# Altium schematic symbol library WE-HCM.SchLib: 78 symbols (part 1 of 2)
Pins are listed as number, name and electrical type; pins without a type are passive.

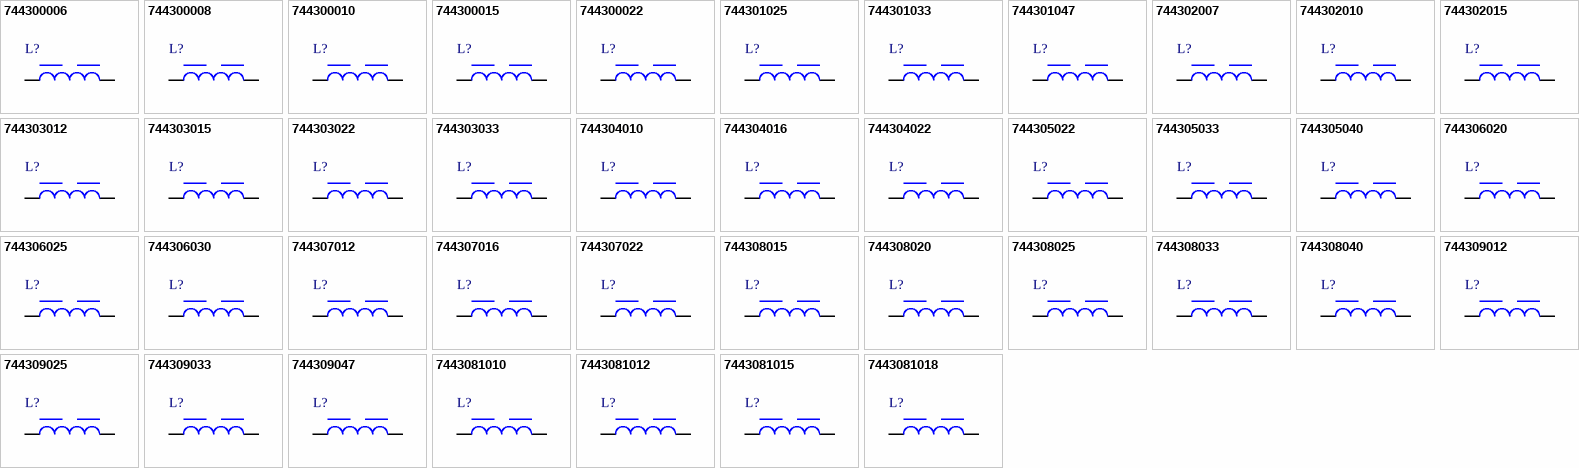
[diagram p0: symbols 744300006 to 7443081018]

## 744300006
designator L?, comment 0.06μH, 37A  (value not drawn)
WE-HCM SMT High Current Flat Wire Inductor, size 9065, 0.06μH, 37A, 0.22mΩ; Manufacturer Part Number: 744300006; Manufacturer: Wurth Elektronik; Case/Size Code: 9065; Material: MnZn; Rated Inductance: 0.059μH; Saturation Current @ 10%: 60.9A; Saturation Current @ 30%: 65.6A; Self Resonant Frequency: 124MHz; Category: Power Inductors; Match Code: WE-HCM; ComponentLink1Description: Website Link; ComponentLink1URL: https://www.we-online.com/redexpert/article/744300006?ad; ComponentLink2Description: Datasheet Link; ComponentLink2URL: https://www.we-online.com/redexpert/spec/744300006?ad; Mount: Surface Mount; Min Operating Temperature: -40°C; Max Operating Temperature: 125°C; Packaging: Tape and Reel; Length: 8.64mm; Width: 6.35mm; Height: 4.5mm; DC Resistance: 0.22mΩ; Inductance: 0.06μH; Rated Current: 37A
footprint WE-HCM_9065
simulation model 9065_744300006_0.06u
pins: 1, 2

## 744300008
designator L?, comment 0.08μH, 37A  (value not drawn)
WE-HCM SMT High Current Flat Wire Inductor, size 9065, 0.08μH, 37A, 0.22mΩ; Manufacturer Part Number: 744300008; Manufacturer: Wurth Elektronik; Case/Size Code: 9065; Material: MnZn; Rated Inductance: 0.078μH; Saturation Current @ 10%: 48.7A; Saturation Current @ 30%: 53.1A; Self Resonant Frequency: 94MHz; Category: Power Inductors; Match Code: WE-HCM; ComponentLink1Description: Website Link; ComponentLink1URL: https://www.we-online.com/redexpert/article/744300008?ad; ComponentLink2Description: Datasheet Link; ComponentLink2URL: https://www.we-online.com/redexpert/spec/744300008?ad; Mount: Surface Mount; Min Operating Temperature: -40°C; Max Operating Temperature: 125°C; Packaging: Tape and Reel; Length: 8.64mm; Width: 6.35mm; Height: 4.5mm; DC Resistance: 0.22mΩ; Inductance: 0.08μH; Rated Current: 37A
footprint WE-HCM_9065
simulation model 9065_744300008_0.08u
pins: 1, 2

## 744300010
designator L?, comment 0.1μH, 37A  (value not drawn)
WE-HCM SMT High Current Flat Wire Inductor, size 9065, 0.1μH, 37A, 0.22mΩ; Manufacturer Part Number: 744300010; Manufacturer: Wurth Elektronik; Case/Size Code: 9065; Material: MnZn; Rated Inductance: 0.093μH; Saturation Current @ 10%: 39.5A; Saturation Current @ 30%: 43.1A; Self Resonant Frequency: 74MHz; Category: Power Inductors; Match Code: WE-HCM; ComponentLink1Description: Website Link; ComponentLink1URL: https://www.we-online.com/redexpert/article/744300010?ad; ComponentLink2Description: Datasheet Link; ComponentLink2URL: https://www.we-online.com/redexpert/spec/744300010?ad; Mount: Surface Mount; Min Operating Temperature: -40°C; Max Operating Temperature: 125°C; Packaging: Tape and Reel; Length: 8.64mm; Width: 6.35mm; Height: 4.5mm; DC Resistance: 0.22mΩ; Inductance: 0.1μH; Rated Current: 37A
footprint WE-HCM_9065
simulation model 9065_744300010_0.1u
pins: 1, 2

## 744300015
designator L?, comment 0.15μH, 37A  (value not drawn)
WE-HCM SMT High Current Flat Wire Inductor, size 9065, 0.15μH, 37A, 0.22mΩ; Manufacturer Part Number: 744300015; Manufacturer: Wurth Elektronik; Case/Size Code: 9065; Material: MnZn; Rated Inductance: 0.034μH; Saturation Current @ 10%: 28.3A; Saturation Current @ 30%: 32.3A; Self Resonant Frequency: 51MHz; Category: Power Inductors; Match Code: WE-HCM; ComponentLink1Description: Website Link; ComponentLink1URL: https://www.we-online.com/redexpert/article/744300015?ad; ComponentLink2Description: Datasheet Link; ComponentLink2URL: https://www.we-online.com/redexpert/spec/744300015?ad; Mount: Surface Mount; Min Operating Temperature: -40°C; Max Operating Temperature: 125°C; Packaging: Tape and Reel; Length: 8.64mm; Width: 6.35mm; Height: 4.5mm; DC Resistance: 0.22mΩ; Inductance: 0.15μH; Rated Current: 37A
footprint WE-HCM_9065
simulation model 9065_744300015_0.15u
pins: 1, 2

## 744300022
designator L?, comment 0.22μH, 37A  (value not drawn)
WE-HCM SMT High Current Flat Wire Inductor, size 9065, 0.22μH, 37A, 0.22mΩ; Manufacturer Part Number: 744300022; Manufacturer: Wurth Elektronik; Case/Size Code: 9065; Material: MnZn; Rated Inductance: 0.024μH; Saturation Current @ 10%: 18.8A; Saturation Current @ 30%: 21.6A; Self Resonant Frequency: 38MHz; Category: Power Inductors; Match Code: WE-HCM; ComponentLink1Description: Website Link; ComponentLink1URL: https://www.we-online.com/redexpert/article/744300022?ad; ComponentLink2Description: Datasheet Link; ComponentLink2URL: https://www.we-online.com/redexpert/spec/744300022?ad; Mount: Surface Mount; Min Operating Temperature: -40°C; Max Operating Temperature: 125°C; Packaging: Tape and Reel; Length: 8.64mm; Width: 6.35mm; Height: 4.5mm; DC Resistance: 0.22mΩ; Inductance: 0.22μH; Rated Current: 37A
footprint WE-HCM_9065
simulation model 9065_744300022_0.22u
pins: 1, 2

## 744301025
designator L?, comment 0.25μH, 38A  (value not drawn)
WE-HCM SMT High Current Flat Wire Inductor, size 1190, 0.25μH, 38A, 0.32mΩ; Manufacturer Part Number: 744301025; Manufacturer: Wurth Elektronik; Case/Size Code: 1190; Material: MnZn; Saturation Current @ 10%: 54.4A; Saturation Current @ 30%: 64.7A; Self Resonant Frequency: 33MHz; Category: Power Inductors; Match Code: WE-HCM; ComponentLink1Description: Website Link; ComponentLink1URL: https://www.we-online.com/redexpert/article/744301025?ad; ComponentLink2Description: Datasheet Link; ComponentLink2URL: https://www.we-online.com/redexpert/spec/744301025?ad; Mount: Surface Mount; Min Operating Temperature: -40°C; Max Operating Temperature: 125°C; Packaging: Tape and Reel; Length: 11.3mm; Width: 11mm; Height: 8.9mm; DC Resistance: 0.32mΩ; Inductance: 0.25μH; Rated Current: 38A; Rated Inductance: 0.25μH
footprint WE-HCM_1190
simulation model 1190_744301025_0.25u
pins: 1, 2

## 744301033
designator L?, comment 0.33μH, 38A  (value not drawn)
WE-HCM SMT High Current Flat Wire Inductor, size 1190, 0.33μH, 38A, 0.32mΩ; Manufacturer Part Number: 744301033; Manufacturer: Wurth Elektronik; Case/Size Code: 1190; Material: MnZn; Rated Inductance: 0.325μH; Saturation Current @ 10%: 44.9A; Saturation Current @ 30%: 48.9A; Self Resonant Frequency: 28MHz; Category: Power Inductors; Match Code: WE-HCM; ComponentLink1Description: Website Link; ComponentLink1URL: https://www.we-online.com/redexpert/article/744301033?ad; ComponentLink2Description: Datasheet Link; ComponentLink2URL: https://www.we-online.com/redexpert/spec/744301033?ad; Mount: Surface Mount; Min Operating Temperature: -40°C; Max Operating Temperature: 125°C; Packaging: Tape and Reel; Length: 11.3mm; Width: 11mm; Height: 8.9mm; DC Resistance: 0.32mΩ; Inductance: 0.33μH; Rated Current: 38A
footprint WE-HCM_1190
simulation model 1190_744301033_0.33u
pins: 1, 2

## 744301047
designator L?, comment 0.47μH, 38A  (value not drawn)
WE-HCM SMT High Current Flat Wire Inductor, size 1190, 0.47μH, 38A, 0.32mΩ; Manufacturer Part Number: 744301047; Manufacturer: Wurth Elektronik; Case/Size Code: 1190; Material: MnZn; Rated Inductance: 0.24μH; Saturation Current @ 10%: 32.1A; Saturation Current @ 30%: 36.1A; Self Resonant Frequency: 20MHz; Category: Power Inductors; Match Code: WE-HCM; ComponentLink1Description: Website Link; ComponentLink1URL: https://www.we-online.com/redexpert/article/744301047?ad; ComponentLink2Description: Datasheet Link; ComponentLink2URL: https://www.we-online.com/redexpert/spec/744301047?ad; Mount: Surface Mount; Min Operating Temperature: -40°C; Max Operating Temperature: 125°C; Packaging: Tape and Reel; Length: 11.3mm; Width: 11mm; Height: 8.9mm; DC Resistance: 0.32mΩ; Inductance: 0.47μH; Rated Current: 38A
footprint WE-HCM_1190
simulation model 1190_744301047_0.47u
pins: 1, 2

## 744302007
designator L?, comment 0.072μH, 30A  (value not drawn)
WE-HCM SMT High Current Flat Wire Inductor, size 7050, 0.072μH, 30A, 0.235mΩ; Manufacturer Part Number: 744302007; Manufacturer: Wurth Elektronik; Case/Size Code: 7050; Material: MnZn; Rated Inductance: 0.071μH; Saturation Current @ 10%: 62A; Saturation Current @ 30%: 64A; Self Resonant Frequency: 150MHz; Category: Power Inductors; Match Code: WE-HCM; ComponentLink1Description: Website Link; ComponentLink1URL: https://www.we-online.com/redexpert/article/744302007?ad; ComponentLink2Description: Datasheet Link; ComponentLink2URL: https://www.we-online.com/redexpert/spec/744302007?ad; Mount: Surface Mount; Min Operating Temperature: -40°C; Max Operating Temperature: 125°C; Packaging: Tape and Reel; Length: 7.15mm; Width: 7mm; Height: 5mm; DC Resistance: 0.235mΩ; Inductance: 0.072μH; Rated Current: 30A
footprint WE-HCM_7050
simulation model 7050_744302007_0.072u
pins: 1, 2

## 744302010
designator L?, comment 0.105μH, 30A  (value not drawn)
WE-HCM SMT High Current Flat Wire Inductor, size 7050, 0.105μH, 30A, 0.235mΩ; Manufacturer Part Number: 744302010; Manufacturer: Wurth Elektronik; Case/Size Code: 7050; Material: MnZn; Rated Inductance: 0.104μH; Saturation Current @ 10%: 45A; Saturation Current @ 30%: 51A; Self Resonant Frequency: 70MHz; Category: Power Inductors; Match Code: WE-HCM; ComponentLink1Description: Website Link; ComponentLink1URL: https://www.we-online.com/redexpert/article/744302010?ad; ComponentLink2Description: Datasheet Link; ComponentLink2URL: https://www.we-online.com/redexpert/spec/744302010?ad; Mount: Surface Mount; Min Operating Temperature: -40°C; Max Operating Temperature: 125°C; Packaging: Tape and Reel; Length: 7.15mm; Width: 7mm; Height: 5mm; DC Resistance: 0.235mΩ; Inductance: 0.105μH; Rated Current: 30A
footprint WE-HCM_7050
simulation model 7050_744302010_0.105u
pins: 1, 2

## 744302015
designator L?, comment 0.15μH, 30A  (value not drawn)
WE-HCM SMT High Current Flat Wire Inductor, size 7050, 0.15μH, 30A, 0.235mΩ; Manufacturer Part Number: 744302015; Manufacturer: Wurth Elektronik; Case/Size Code: 7050; Material: MnZn; Rated Inductance: 0.125μH; Saturation Current @ 30%: 35A; Self Resonant Frequency: 55MHz; Category: Power Inductors; Match Code: WE-HCM; ComponentLink1Description: Website Link; ComponentLink1URL: https://www.we-online.com/redexpert/article/744302015?ad; ComponentLink2Description: Datasheet Link; ComponentLink2URL: https://www.we-online.com/redexpert/spec/744302015?ad; Mount: Surface Mount; Min Operating Temperature: -40°C; Max Operating Temperature: 125°C; Packaging: Tape and Reel; Length: 7.15mm; Width: 7mm; Height: 5mm; DC Resistance: 0.235mΩ; Inductance: 0.15μH; Rated Current: 30A; Saturation Current @ 10%: 30A
footprint WE-HCM_7050
simulation model 7050_744302015_0.15u
pins: 1, 2

## 744303012
designator L?, comment 0.12μH, 31A  (value not drawn)
WE-HCM SMT High Current Flat Wire Inductor, size 1050, 0.12μH, 31A, 0.325mΩ; Manufacturer Part Number: 744303012; Manufacturer: Wurth Elektronik; Case/Size Code: 1050; Material: MnZn; Rated Inductance: 0.118μH; Saturation Current @ 10%: 51.2A; Saturation Current @ 30%: 59.8A; Self Resonant Frequency: 150MHz; Category: Power Inductors; Match Code: WE-HCM; ComponentLink1Description: Website Link; ComponentLink1URL: https://www.we-online.com/redexpert/article/744303012?ad; ComponentLink2Description: Datasheet Link; ComponentLink2URL: https://www.we-online.com/redexpert/spec/744303012?ad; Mount: Surface Mount; Min Operating Temperature: -40°C; Max Operating Temperature: 125°C; Packaging: Tape and Reel; Length: 10.2mm; Width: 7mm; Height: 5mm; DC Resistance: 0.325mΩ; Inductance: 0.12μH; Rated Current: 31A
footprint WE-HCM_1050
simulation model 1050_744303012_0.12u
pins: 1, 2

## 744303015
designator L?, comment 0.155μH, 31A  (value not drawn)
WE-HCM SMT High Current Flat Wire Inductor, size 1050, 0.155μH, 31A, 0.325mΩ; Manufacturer Part Number: 744303015; Manufacturer: Wurth Elektronik; Case/Size Code: 1050; Material: MnZn; Rated Inductance: 0.15μH; Saturation Current @ 10%: 44.5A; Saturation Current @ 30%: 51.5A; Self Resonant Frequency: 110MHz; Category: Power Inductors; Match Code: WE-HCM; ComponentLink1Description: Website Link; ComponentLink1URL: https://www.we-online.com/redexpert/article/744303015?ad; ComponentLink2Description: Datasheet Link; ComponentLink2URL: https://www.we-online.com/redexpert/spec/744303015?ad; Mount: Surface Mount; Min Operating Temperature: -40°C; Max Operating Temperature: 125°C; Packaging: Tape and Reel; Length: 10.2mm; Width: 7mm; Height: 5mm; DC Resistance: 0.325mΩ; Inductance: 0.155μH; Rated Current: 31A
footprint WE-HCM_1050
simulation model 1050_744303015_0.155u
pins: 1, 2

## 744303022
designator L?, comment 0.22μH, 31A  (value not drawn)
WE-HCM SMT High Current Flat Wire Inductor, size 1050, 0.22μH, 31A, 0.325mΩ; Manufacturer Part Number: 744303022; Manufacturer: Wurth Elektronik; Case/Size Code: 1050; Material: MnZn; Rated Inductance: 0.18μH; Saturation Current @ 10%: 27A; Saturation Current @ 30%: 34.5A; Self Resonant Frequency: 80MHz; Category: Power Inductors; Match Code: WE-HCM; ComponentLink1Description: Website Link; ComponentLink1URL: https://www.we-online.com/redexpert/article/744303022?ad; ComponentLink2Description: Datasheet Link; ComponentLink2URL: https://www.we-online.com/redexpert/spec/744303022?ad; Mount: Surface Mount; Min Operating Temperature: -40°C; Max Operating Temperature: 125°C; Packaging: Tape and Reel; Length: 10.2mm; Width: 7mm; Height: 5mm; DC Resistance: 0.325mΩ; Inductance: 0.22μH; Rated Current: 31A
footprint WE-HCM_1050
simulation model 1050_744303022_0.22u
pins: 1, 2

## 744303033
designator L?, comment 0.33μH, 63.9A  (value not drawn)
WE-HCM SMT High Current Flat Wire Inductor, size 1050, 0.33μH, 63.9A, 0.325mΩ; Manufacturer Part Number: 744303033; Manufacturer: Wurth Elektronik; Case/Size Code: 1050; Material: MnZn; Saturation Current @ 10%: 14A; Saturation Current @ 30%: 24A; Self Resonant Frequency: 20MHz; Category: Power Inductors; Match Code: WE-HCM; ComponentLink1Description: Website Link; ComponentLink1URL: https://www.we-online.com/redexpert/article/744303033?ad; ComponentLink2Description: Datasheet Link; ComponentLink2URL: https://www.we-online.com/redexpert/spec/744303033?ad; Mount: Surface Mount; Min Operating Temperature: -40°C; Max Operating Temperature: 125°C; Packaging: Tape and Reel; Length: 10.2mm; Width: 7mm; Height: 5mm; DC Resistance: 0.325mΩ; Inductance: 0.33μH; Rated Current: 63.9A
footprint WE-HCM_1050
pins: 1, 2

## 744304010
designator L?, comment 0.1μH, 24A  (value not drawn)
WE-HCM SMT High Current Flat Wire Inductor, size 1240, 0.1μH, 24A, 0.17mΩ; Manufacturer Part Number: 744304010; Manufacturer: Wurth Elektronik; Case/Size Code: 1240; Material: MnZn; Saturation Current @ 10%: 57.4A; Saturation Current @ 30%: 68.1A; Self Resonant Frequency: 105MHz; Category: Power Inductors; Match Code: WE-HCM; ComponentLink1Description: Website Link; ComponentLink1URL: https://www.we-online.com/redexpert/article/744304010?ad; ComponentLink2Description: Datasheet Link; ComponentLink2URL: https://www.we-online.com/redexpert/spec/744304010?ad; Mount: Surface Mount; Min Operating Temperature: -40°C; Max Operating Temperature: 125°C; Packaging: Tape and Reel; Length: 11.5mm; Width: 11.8mm; Height: 3.8mm; DC Resistance: 0.17mΩ; Inductance: 0.1μH; Rated Current: 24A; Rated Inductance: 0.1μH
footprint WE-HCM_1240
simulation model 1240_744304010_0.1u
pins: 1, 2

## 744304016
designator L?, comment 0.16μH, 24A  (value not drawn)
WE-HCM SMT High Current Flat Wire Inductor, size 1240, 0.16μH, 24A, 0.17mΩ; Manufacturer Part Number: 744304016; Manufacturer: Wurth Elektronik; Case/Size Code: 1240; Material: MnZn; Rated Inductance: 0.155μH; Saturation Current @ 10%: 34.2A; Saturation Current @ 30%: 42.4A; Self Resonant Frequency: 80MHz; Category: Power Inductors; Match Code: WE-HCM; ComponentLink1Description: Website Link; ComponentLink1URL: https://www.we-online.com/redexpert/article/744304016?ad; ComponentLink2Description: Datasheet Link; ComponentLink2URL: https://www.we-online.com/redexpert/spec/744304016?ad; Mount: Surface Mount; Min Operating Temperature: -40°C; Max Operating Temperature: 125°C; Packaging: Tape and Reel; Length: 11.5mm; Width: 11.8mm; Height: 3.8mm; DC Resistance: 0.17mΩ; Inductance: 0.16μH; Rated Current: 24A
footprint WE-HCM_1240
simulation model 1240_744304016_0.16u
pins: 1, 2

## 744304022
designator L?, comment 0.22μH, 24A  (value not drawn)
WE-HCM SMT High Current Flat Wire Inductor, size 1240, 0.22μH, 24A, 0.17mΩ; Manufacturer Part Number: 744304022; Manufacturer: Wurth Elektronik; Case/Size Code: 1240; Material: MnZn; Rated Inductance: 0.16μH; Saturation Current @ 10%: 22.1A; Saturation Current @ 30%: 27.7A; Self Resonant Frequency: 70MHz; Category: Power Inductors; Match Code: WE-HCM; ComponentLink1Description: Website Link; ComponentLink1URL: https://www.we-online.com/redexpert/article/744304022?ad; ComponentLink2Description: Datasheet Link; ComponentLink2URL: https://www.we-online.com/redexpert/spec/744304022?ad; Mount: Surface Mount; Min Operating Temperature: -40°C; Max Operating Temperature: 125°C; Packaging: Tape and Reel; Length: 11.5mm; Width: 11.8mm; Height: 3.8mm; DC Resistance: 0.17mΩ; Inductance: 0.22μH; Rated Current: 24A
footprint WE-HCM_1240
simulation model 1240_744304022_0.22u
pins: 1, 2

## 744305022
designator L?, comment 0.22μH, 26A  (value not drawn)
WE-HCM SMT High Current Flat Wire Inductor, size 1350, 0.22μH, 26A, 0.155mΩ; Manufacturer Part Number: 744305022; Manufacturer: Wurth Elektronik; Case/Size Code: 1350; Material: MnZn; Rated Inductance: 0.215μH; Saturation Current @ 10%: 39.9A; Saturation Current @ 30%: 42A; Self Resonant Frequency: 36MHz; Category: Power Inductors; Match Code: WE-HCM; ComponentLink1Description: Website Link; ComponentLink1URL: https://www.we-online.com/redexpert/article/744305022?ad; ComponentLink2Description: Datasheet Link; ComponentLink2URL: https://www.we-online.com/redexpert/spec/744305022?ad; Mount: Surface Mount; Min Operating Temperature: -40°C; Max Operating Temperature: 125°C; Packaging: Tape and Reel; Length: 13.5mm; Width: 13.3mm; Height: 5mm; DC Resistance: 0.155mΩ; Inductance: 0.22μH; Rated Current: 26A
footprint WE-HCM_1350
simulation model 1350_744305022_0.22u
pins: 1, 2

## 744305033
designator L?, comment 0.33μH, 26A  (value not drawn)
WE-HCM SMT High Current Flat Wire Inductor, size 1350, 0.33μH, 26A, 0.155mΩ; Manufacturer Part Number: 744305033; Manufacturer: Wurth Elektronik; Case/Size Code: 1350; Material: MnZn; Rated Inductance: 0.27μH; Saturation Current @ 10%: 23.6A; Saturation Current @ 30%: 27.7A; Self Resonant Frequency: 22MHz; Category: Power Inductors; Match Code: WE-HCM; ComponentLink1Description: Website Link; ComponentLink1URL: https://www.we-online.com/redexpert/article/744305033?ad; ComponentLink2Description: Datasheet Link; ComponentLink2URL: https://www.we-online.com/redexpert/spec/744305033?ad; Mount: Surface Mount; Min Operating Temperature: -40°C; Max Operating Temperature: 125°C; Packaging: Tape and Reel; Length: 13.5mm; Width: 13.3mm; Height: 5mm; DC Resistance: 0.155mΩ; Inductance: 0.33μH; Rated Current: 26A
footprint WE-HCM_1350
simulation model 1350_744305033_0.33u
pins: 1, 2

## 744305040
designator L?, comment 0.4μH, 26A  (value not drawn)
WE-HCM SMT High Current Flat Wire Inductor, size 1350, 0.4μH, 26A, 0.155mΩ; Manufacturer Part Number: 744305040; Manufacturer: Wurth Elektronik; Case/Size Code: 1350; Material: MnZn; Rated Inductance: 0.1μH; Saturation Current @ 10%: 16.8A; Saturation Current @ 30%: 21.7A; Self Resonant Frequency: 20MHz; Category: Power Inductors; Match Code: WE-HCM; ComponentLink1Description: Website Link; ComponentLink1URL: https://www.we-online.com/redexpert/article/744305040?ad; ComponentLink2Description: Datasheet Link; ComponentLink2URL: https://www.we-online.com/redexpert/spec/744305040?ad; Mount: Surface Mount; Min Operating Temperature: -40°C; Max Operating Temperature: 125°C; Packaging: Tape and Reel; Length: 13.5mm; Width: 13.3mm; Height: 5mm; DC Resistance: 0.155mΩ; Inductance: 0.4μH; Rated Current: 26A
footprint WE-HCM_1350
simulation model 1350_744305040_0.4u
pins: 1, 2

## 744306020
designator L?, comment 0.2μH, 25A  (value not drawn)
WE-HCM SMT High Current Flat Wire Inductor, size 1052, 0.2μH, 25A, 0.26mΩ; Manufacturer Part Number: 744306020; Manufacturer: Wurth Elektronik; Case/Size Code: 1052; Material: MnZn; Rated Inductance: 0.195μH; Saturation Current @ 10%: 34A; Saturation Current @ 30%: 36.1A; Self Resonant Frequency: 51MHz; Category: Power Inductors; Match Code: WE-HCM; ComponentLink1Description: Website Link; ComponentLink1URL: https://www.we-online.com/redexpert/article/744306020?ad; ComponentLink2Description: Datasheet Link; ComponentLink2URL: https://www.we-online.com/redexpert/spec/744306020?ad; Mount: Surface Mount; Min Operating Temperature: -40°C; Max Operating Temperature: 125°C; Packaging: Tape and Reel; Length: 10.5mm; Width: 10.3mm; Height: 5mm; DC Resistance: 0.26mΩ; Inductance: 0.2μH; Rated Current: 25A
footprint WE-HCM_1052
simulation model 1052_744306020_0.2u
pins: 1, 2

## 744306025
designator L?, comment 0.25μH, 25A  (value not drawn)
WE-HCM SMT High Current Flat Wire Inductor, size 1052, 0.25μH, 25A, 0.26mΩ; Manufacturer Part Number: 744306025; Manufacturer: Wurth Elektronik; Case/Size Code: 1052; Material: MnZn; Rated Inductance: 0.24μH; Saturation Current @ 10%: 30.3A; Saturation Current @ 30%: 32.3A; Self Resonant Frequency: 38MHz; Category: Power Inductors; Match Code: WE-HCM; ComponentLink1Description: Website Link; ComponentLink1URL: https://www.we-online.com/redexpert/article/744306025?ad; ComponentLink2Description: Datasheet Link; ComponentLink2URL: https://www.we-online.com/redexpert/spec/744306025?ad; Mount: Surface Mount; Min Operating Temperature: -40°C; Max Operating Temperature: 125°C; Packaging: Tape and Reel; Length: 10.5mm; Width: 10.3mm; Height: 5mm; DC Resistance: 0.26mΩ; Inductance: 0.25μH; Rated Current: 25A
footprint WE-HCM_1052
simulation model 1052_744306025_0.25u
pins: 1, 2

## 744306030
designator L?, comment 0.3μH, 25A  (value not drawn)
WE-HCM SMT High Current Flat Wire Inductor, size 1052, 0.3μH, 25A, 0.26mΩ; Manufacturer Part Number: 744306030; Manufacturer: Wurth Elektronik; Case/Size Code: 1052; Material: MnZn; Rated Inductance: 0.22μH; Saturation Current @ 10%: 22.2A; Self Resonant Frequency: 31MHz; Category: Power Inductors; Match Code: WE-HCM; ComponentLink1Description: Website Link; ComponentLink1URL: https://www.we-online.com/redexpert/article/744306030?ad; ComponentLink2Description: Datasheet Link; ComponentLink2URL: https://www.we-online.com/redexpert/spec/744306030?ad; Mount: Surface Mount; Min Operating Temperature: -40°C; Max Operating Temperature: 125°C; Packaging: Tape and Reel; Length: 10.5mm; Width: 10.3mm; Height: 5mm; DC Resistance: 0.26mΩ; Inductance: 0.3μH; Rated Current: 25A; Saturation Current @ 30%: 25A
footprint WE-HCM_1052
simulation model 1052_744306030_0.3u
pins: 1, 2

## 744307012
designator L?, comment 0.12μH, 26A  (value not drawn)
WE-HCM SMT High Current Flat Wire Inductor, size 7070, 0.12μH, 26A, 0.29mΩ; Manufacturer Part Number: 744307012; Manufacturer: Wurth Elektronik; Case/Size Code: 7070; Material: MnZn; Rated Inductance: 0.118μH; Saturation Current @ 10%: 43.3A; Saturation Current @ 30%: 48.5A; Self Resonant Frequency: 66MHz; Category: Power Inductors; Match Code: WE-HCM; ComponentLink1Description: Website Link; ComponentLink1URL: https://www.we-online.com/redexpert/article/744307012?ad; ComponentLink2Description: Datasheet Link; ComponentLink2URL: https://www.we-online.com/redexpert/spec/744307012?ad; Mount: Surface Mount; Min Operating Temperature: -40°C; Max Operating Temperature: 125°C; Packaging: Tape and Reel; Length: 7mm; Width: 7mm; Height: 7mm; DC Resistance: 0.29mΩ; Inductance: 0.12μH; Rated Current: 26A
footprint WE-HCM_7070
simulation model 7070_744307012_0.12u
pins: 1, 2

## 744307016
designator L?, comment 0.16μH, 26A  (value not drawn)
WE-HCM SMT High Current Flat Wire Inductor, size 7070, 0.16μH, 26A, 0.29mΩ; Manufacturer Part Number: 744307016; Manufacturer: Wurth Elektronik; Case/Size Code: 7070; Material: MnZn; Rated Inductance: 0.155μH; Saturation Current @ 10%: 40A; Saturation Current @ 30%: 51.7A; Self Resonant Frequency: 50MHz; Category: Power Inductors; Match Code: WE-HCM; ComponentLink1Description: Website Link; ComponentLink1URL: https://www.we-online.com/redexpert/article/744307016?ad; ComponentLink2Description: Datasheet Link; ComponentLink2URL: https://www.we-online.com/redexpert/spec/744307016?ad; Mount: Surface Mount; Min Operating Temperature: -40°C; Max Operating Temperature: 125°C; Packaging: Tape and Reel; Length: 7mm; Width: 7mm; Height: 7mm; DC Resistance: 0.29mΩ; Inductance: 0.16μH; Rated Current: 26A
footprint WE-HCM_7070
simulation model 7070_744307016_0.16u
pins: 1, 2

## 744307022
designator L?, comment 0.22μH, 26A  (value not drawn)
WE-HCM SMT High Current Flat Wire Inductor, size 7070, 0.22μH, 26A, 0.29mΩ; Manufacturer Part Number: 744307022; Manufacturer: Wurth Elektronik; Case/Size Code: 7070; Material: MnZn; Rated Inductance: 0.174μH; Saturation Current @ 10%: 26.8A; Saturation Current @ 30%: 29.9A; Self Resonant Frequency: 38MHz; Category: Power Inductors; Match Code: WE-HCM; ComponentLink1Description: Website Link; ComponentLink1URL: https://www.we-online.com/redexpert/article/744307022?ad; ComponentLink2Description: Datasheet Link; ComponentLink2URL: https://www.we-online.com/redexpert/spec/744307022?ad; Mount: Surface Mount; Min Operating Temperature: -40°C; Max Operating Temperature: 125°C; Packaging: Tape and Reel; Length: 7mm; Width: 7mm; Height: 7mm; DC Resistance: 0.29mΩ; Inductance: 0.22μH; Rated Current: 26A
footprint WE-HCM_7070
simulation model 7070_744307022_0.22u
pins: 1, 2

## 744308015
designator L?, comment 0.15μH, 25A  (value not drawn)
WE-HCM SMT High Current Flat Wire Inductor, size 1070, 0.15μH, 25A, 0.37mΩ; Manufacturer Part Number: 744308015; Manufacturer: Wurth Elektronik; Case/Size Code: 1070; Material: MnZn; Saturation Current @ 10%: 53.8A; Saturation Current @ 30%: 60.7A; Self Resonant Frequency: 60MHz; Category: Power Inductors; Match Code: WE-HCM; ComponentLink1Description: Website Link; ComponentLink1URL: https://www.we-online.com/redexpert/article/744308015?ad; ComponentLink2Description: Datasheet Link; ComponentLink2URL: https://www.we-online.com/redexpert/spec/744308015?ad; Mount: Surface Mount; Min Operating Temperature: -40°C; Max Operating Temperature: 125°C; Packaging: Tape and Reel; Length: 10.1mm; Width: 7mm; Height: 6.8mm; DC Resistance: 0.37mΩ; Inductance: 0.15μH; Rated Current: 25A; Rated Inductance: 0.15μH
footprint WE-HCM_1070
simulation model 1070_744308015_0.15u
pins: 1, 2

## 744308020
designator L?, comment 0.2μH, 25A  (value not drawn)
WE-HCM SMT High Current Flat Wire Inductor, size 1070, 0.2μH, 25A, 0.37mΩ; Manufacturer Part Number: 744308020; Manufacturer: Wurth Elektronik; Case/Size Code: 1070; Material: MnZn; Rated Inductance: 0.198μH; Saturation Current @ 10%: 44A; Saturation Current @ 30%: 50.4A; Self Resonant Frequency: 45MHz; Category: Power Inductors; Match Code: WE-HCM; ComponentLink1Description: Website Link; ComponentLink1URL: https://www.we-online.com/redexpert/article/744308020?ad; ComponentLink2Description: Datasheet Link; ComponentLink2URL: https://www.we-online.com/redexpert/spec/744308020?ad; Mount: Surface Mount; Min Operating Temperature: -40°C; Max Operating Temperature: 125°C; Packaging: Tape and Reel; Length: 10.1mm; Width: 7mm; Height: 6.8mm; DC Resistance: 0.37mΩ; Inductance: 0.2μH; Rated Current: 25A
footprint WE-HCM_1070
simulation model 1070_744308020_0.2u
pins: 1, 2

## 744308025
designator L?, comment 0.25μH, 25A  (value not drawn)
WE-HCM SMT High Current Flat Wire Inductor, size 1070, 0.25μH, 25A, 0.37mΩ; Manufacturer Part Number: 744308025; Manufacturer: Wurth Elektronik; Case/Size Code: 1070; Material: MnZn; Rated Inductance: 0.246μH; Saturation Current @ 10%: 41.6A; Saturation Current @ 30%: 46.5A; Self Resonant Frequency: 40MHz; Category: Power Inductors; Match Code: WE-HCM; ComponentLink1Description: Website Link; ComponentLink1URL: https://www.we-online.com/redexpert/article/744308025?ad; ComponentLink2Description: Datasheet Link; ComponentLink2URL: https://www.we-online.com/redexpert/spec/744308025?ad; Mount: Surface Mount; Min Operating Temperature: -40°C; Max Operating Temperature: 125°C; Packaging: Tape and Reel; Length: 10.1mm; Width: 7mm; Height: 6.8mm; DC Resistance: 0.37mΩ; Inductance: 0.25μH; Rated Current: 25A
footprint WE-HCM_1070
simulation model 1070_744308025_0.25u
pins: 1, 2

## 744308033
designator L?, comment 0.33μH, 25A  (value not drawn)
WE-HCM SMT High Current Flat Wire Inductor, size 1070, 0.33μH, 25A, 0.37mΩ; Manufacturer Part Number: 744308033; Manufacturer: Wurth Elektronik; Case/Size Code: 1070; Material: MnZn; Rated Inductance: 0.305μH; Saturation Current @ 10%: 27.3A; Saturation Current @ 30%: 32A; Self Resonant Frequency: 35MHz; Category: Power Inductors; Match Code: WE-HCM; ComponentLink1Description: Website Link; ComponentLink1URL: https://www.we-online.com/redexpert/article/744308033?ad; ComponentLink2Description: Datasheet Link; ComponentLink2URL: https://www.we-online.com/redexpert/spec/744308033?ad; Mount: Surface Mount; Min Operating Temperature: -40°C; Max Operating Temperature: 125°C; Packaging: Tape and Reel; Length: 10.1mm; Width: 7mm; Height: 6.8mm; DC Resistance: 0.37mΩ; Inductance: 0.33μH; Rated Current: 25A
footprint WE-HCM_1070
simulation model 1070_744308033_0.33u
pins: 1, 2

## 744308040
designator L?, comment 0.4μH, 25A  (value not drawn)
WE-HCM SMT High Current Flat Wire Inductor, size 1070, 0.4μH, 25A, 0.37mΩ; Manufacturer Part Number: 744308040; Manufacturer: Wurth Elektronik; Case/Size Code: 1070; Material: MnZn; Rated Inductance: 0.345μH; Saturation Current @ 10%: 23.8A; Saturation Current @ 30%: 28.3A; Self Resonant Frequency: 25MHz; Category: Power Inductors; Match Code: WE-HCM; ComponentLink1Description: Website Link; ComponentLink1URL: https://www.we-online.com/redexpert/article/744308040?ad; ComponentLink2Description: Datasheet Link; ComponentLink2URL: https://www.we-online.com/redexpert/spec/744308040?ad; Mount: Surface Mount; Min Operating Temperature: -40°C; Max Operating Temperature: 125°C; Packaging: Tape and Reel; Length: 10.1mm; Width: 7mm; Height: 6.8mm; DC Resistance: 0.37mΩ; Inductance: 0.4μH; Rated Current: 25A
footprint WE-HCM_1070
simulation model 1070_744308040_0.4u
pins: 1, 2

## 744309012
designator L?, comment 0.12μH, 47.5A  (value not drawn)
WE-HCM SMT High Current Flat Wire Inductor, size 1390, 0.12μH, 47.5A, 0.165mΩ; Manufacturer Part Number: 744309012; Manufacturer: Wurth Elektronik; Case/Size Code: 1390; Material: MnZn; Saturation Current @ 10%: 125A; Self Resonant Frequency: 65MHz; Category: Power Inductors; Match Code: WE-HCM; ComponentLink1Description: Website Link; ComponentLink1URL: https://www.we-online.com/redexpert/article/744309012?ad; ComponentLink2Description: Datasheet Link; ComponentLink2URL: https://www.we-online.com/redexpert/spec/744309012?ad; Mount: Surface Mount; Min Operating Temperature: -40°C; Max Operating Temperature: 125°C; Packaging: Tape and Reel; Length: 14mm; Width: 13mm; Height: 9mm; DC Resistance: 0.165mΩ; Inductance: 0.12μH; Rated Current: 47.5A; Rated Inductance: 0.12μH; Saturation Current @ 30%: 125A
footprint WE-HCM_1390
simulation model 1390_744309012_0.12u
pins: 1, 2

## 744309025
designator L?, comment 0.25μH, 47.5A  (value not drawn)
WE-HCM SMT High Current Flat Wire Inductor, size 1390, 0.25μH, 47.5A, 0.165mΩ; Manufacturer Part Number: 744309025; Manufacturer: Wurth Elektronik; Case/Size Code: 1390; Material: MnZn; Rated Inductance: 0.245μH; Saturation Current @ 10%: 75.6A; Saturation Current @ 30%: 88.5A; Self Resonant Frequency: 37MHz; Category: Power Inductors; Match Code: WE-HCM; ComponentLink1Description: Website Link; ComponentLink1URL: https://www.we-online.com/redexpert/article/744309025?ad; ComponentLink2Description: Datasheet Link; ComponentLink2URL: https://www.we-online.com/redexpert/spec/744309025?ad; Mount: Surface Mount; Min Operating Temperature: -40°C; Max Operating Temperature: 125°C; Packaging: Tape and Reel; Length: 14mm; Width: 13mm; Height: 9mm; DC Resistance: 0.165mΩ; Inductance: 0.25μH; Rated Current: 47.5A
footprint WE-HCM_1390
simulation model 1390_744309025_0.25u
pins: 1, 2

## 744309033
designator L?, comment 0.33μH, 47.5A  (value not drawn)
WE-HCM SMT High Current Flat Wire Inductor, size 1390, 0.33μH, 47.5A, 0.165mΩ; Manufacturer Part Number: 744309033; Manufacturer: Wurth Elektronik; Case/Size Code: 1390; Material: MnZn; Rated Inductance: 0.31μH; Saturation Current @ 10%: 58A; Saturation Current @ 30%: 65.7A; Self Resonant Frequency: 28MHz; Category: Power Inductors; Match Code: WE-HCM; ComponentLink1Description: Website Link; ComponentLink1URL: https://www.we-online.com/redexpert/article/744309033?ad; ComponentLink2Description: Datasheet Link; ComponentLink2URL: https://www.we-online.com/redexpert/spec/744309033?ad; Mount: Surface Mount; Min Operating Temperature: -40°C; Max Operating Temperature: 125°C; Packaging: Tape and Reel; Length: 14mm; Width: 13mm; Height: 9mm; DC Resistance: 0.165mΩ; Inductance: 0.33μH; Rated Current: 47.5A
footprint WE-HCM_1390
simulation model 1390_744309033_0.33u
pins: 1, 2

## 744309047
designator L?, comment 0.47μH, 47.5A  (value not drawn)
WE-HCM SMT High Current Flat Wire Inductor, size 1390, 0.47μH, 47.5A, 0.165mΩ; Manufacturer Part Number: 744309047; Manufacturer: Wurth Elektronik; Case/Size Code: 1390; Material: MnZn; Rated Inductance: 0.2μH; Saturation Current @ 10%: 35.1A; Saturation Current @ 30%: 46.8A; Self Resonant Frequency: 22MHz; Category: Power Inductors; Match Code: WE-HCM; ComponentLink1Description: Website Link; ComponentLink1URL: https://www.we-online.com/redexpert/article/744309047?ad; ComponentLink2Description: Datasheet Link; ComponentLink2URL: https://www.we-online.com/redexpert/spec/744309047?ad; Mount: Surface Mount; Min Operating Temperature: -40°C; Max Operating Temperature: 125°C; Packaging: Tape and Reel; Length: 14mm; Width: 13mm; Height: 9mm; DC Resistance: 0.165mΩ; Inductance: 0.47μH; Rated Current: 47.5A
footprint WE-HCM_1390
simulation model 1390_744309047_0.47u
pins: 1, 2

## 7443081010
designator L?, comment 0.1μH, 38A  (value not drawn)
WE-HCM SMT High Current Flat Wire Inductor, size 1078, 0.1μH, 38A, 0.29mΩ; Manufacturer Part Number: 7443081010; Manufacturer: Wurth Elektronik; Case/Size Code: 1078; Material: MnZn; Saturation Current @ 10%: 91.3A; Saturation Current @ 30%: 104.4A; Self Resonant Frequency: 80MHz; Category: Power Inductors; Match Code: WE-HCM; ComponentLink1Description: Website Link; ComponentLink1URL: https://www.we-online.com/redexpert/article/7443081010?ad; ComponentLink2Description: Datasheet Link; ComponentLink2URL: https://www.we-online.com/redexpert/spec/7443081010?ad; Mount: Surface Mount; Min Operating Temperature: -40°C; Max Operating Temperature: 125°C; Packaging: Tape and Reel; Length: 9.4mm; Width: 6.2mm; Height: 7.8mm; DC Resistance: 0.29mΩ; Inductance: 0.1μH; Rated Current: 38A; Rated Inductance: 0.1μH
footprint WE-HCM_1078
simulation model 1078_7443081010_0.1u
pins: 1, 2

## 7443081012
designator L?, comment 0.12μH, 38A  (value not drawn)
WE-HCM SMT High Current Flat Wire Inductor, size 1078, 0.12μH, 38A, 0.29mΩ; Manufacturer Part Number: 7443081012; Manufacturer: Wurth Elektronik; Case/Size Code: 1078; Material: MnZn; Saturation Current @ 10%: 78.2A; Saturation Current @ 30%: 88.5A; Self Resonant Frequency: 74MHz; Category: Power Inductors; Match Code: WE-HCM; ComponentLink1Description: Website Link; ComponentLink1URL: https://www.we-online.com/redexpert/article/7443081012?ad; ComponentLink2Description: Datasheet Link; ComponentLink2URL: https://www.we-online.com/redexpert/spec/7443081012?ad; Mount: Surface Mount; Min Operating Temperature: -40°C; Max Operating Temperature: 125°C; Packaging: Tape and Reel; Length: 9.4mm; Width: 6.2mm; Height: 7.8mm; DC Resistance: 0.29mΩ; Inductance: 0.12μH; Rated Current: 38A; Rated Inductance: 0.12μH
footprint WE-HCM_1078
simulation model 1078_7443081012_0.12u
pins: 1, 2

## 7443081015
designator L?, comment 0.15μH, 38A  (value not drawn)
WE-HCM SMT High Current Flat Wire Inductor, size 1078, 0.15μH, 38A, 0.29mΩ; Manufacturer Part Number: 7443081015; Manufacturer: Wurth Elektronik; Case/Size Code: 1078; Material: MnZn; Saturation Current @ 10%: 67A; Saturation Current @ 30%: 75A; Self Resonant Frequency: 60MHz; Category: Power Inductors; Match Code: WE-HCM; ComponentLink1Description: Website Link; ComponentLink1URL: https://www.we-online.com/redexpert/article/7443081015?ad; ComponentLink2Description: Datasheet Link; ComponentLink2URL: https://www.we-online.com/redexpert/spec/7443081015?ad; Mount: Surface Mount; Min Operating Temperature: -40°C; Max Operating Temperature: 125°C; Packaging: Tape and Reel; Length: 9.4mm; Width: 6.2mm; Height: 7.8mm; DC Resistance: 0.29mΩ; Inductance: 0.15μH; Rated Current: 38A; Rated Inductance: 0.15μH
footprint WE-HCM_1078
simulation model 1078_7443081015_0.15u
pins: 1, 2

## 7443081018
designator L?, comment 0.18μH, 38A  (value not drawn)
WE-HCM SMT High Current Flat Wire Inductor, size 1078, 0.18μH, 38A, 0.29mΩ; Manufacturer Part Number: 7443081018; Manufacturer: Wurth Elektronik; Case/Size Code: 1078; Material: MnZn; Rated Inductance: 0.176μH; Saturation Current @ 10%: 55.6A; Saturation Current @ 30%: 63.4A; Self Resonant Frequency: 52MHz; Category: Power Inductors; Match Code: WE-HCM; ComponentLink1Description: Website Link; ComponentLink1URL: https://www.we-online.com/redexpert/article/7443081018?ad; ComponentLink2Description: Datasheet Link; ComponentLink2URL: https://www.we-online.com/redexpert/spec/7443081018?ad; Mount: Surface Mount; Min Operating Temperature: -40°C; Max Operating Temperature: 125°C; Packaging: Tape and Reel; Length: 9.4mm; Width: 6.2mm; Height: 7.8mm; DC Resistance: 0.29mΩ; Inductance: 0.18μH; Rated Current: 38A
footprint WE-HCM_1078
simulation model 1078_7443081018_0.18u
pins: 1, 2

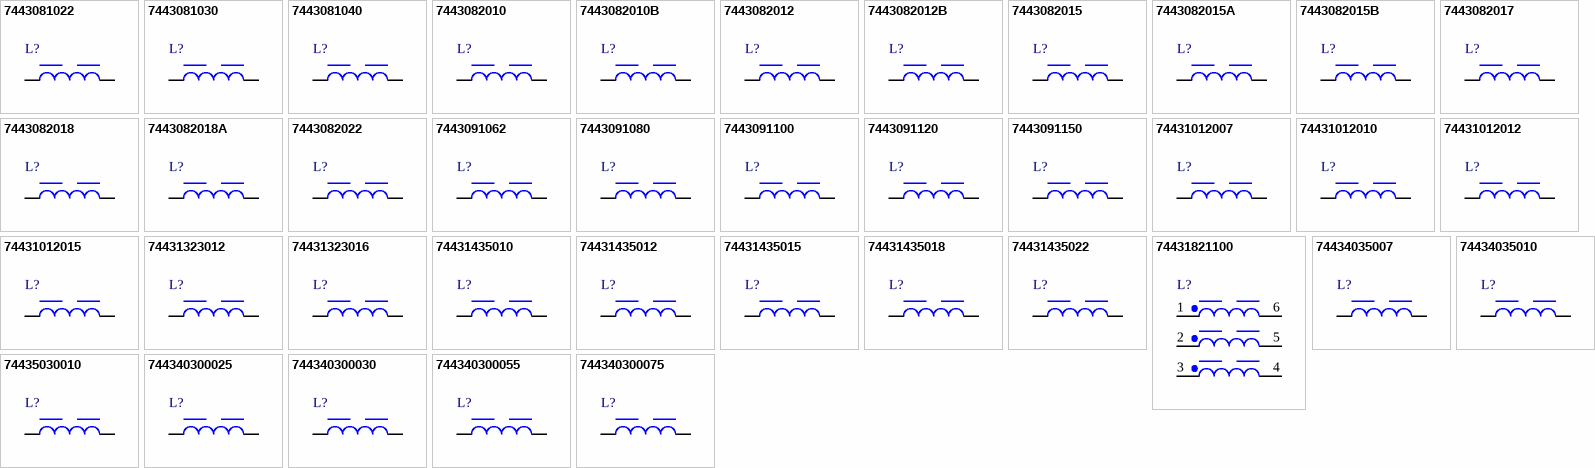
[diagram p1: symbols 7443081022 to 744340300075]

## 7443081022
designator L?, comment 0.22μH, 38A  (value not drawn)
WE-HCM SMT High Current Flat Wire Inductor, size 1078, 0.22μH, 38A, 0.29mΩ; Manufacturer Part Number: 7443081022; Manufacturer: Wurth Elektronik; Case/Size Code: 1078; Material: MnZn; Rated Inductance: 0.2μH; Saturation Current @ 10%: 39.1A; Saturation Current @ 30%: 48.4A; Self Resonant Frequency: 43MHz; Category: Power Inductors; Match Code: WE-HCM; ComponentLink1Description: Website Link; ComponentLink1URL: https://www.we-online.com/redexpert/article/7443081022?ad; ComponentLink2Description: Datasheet Link; ComponentLink2URL: https://www.we-online.com/redexpert/spec/7443081022?ad; Mount: Surface Mount; Min Operating Temperature: -40°C; Max Operating Temperature: 125°C; Packaging: Tape and Reel; Length: 9.4mm; Width: 6.2mm; Height: 7.8mm; DC Resistance: 0.29mΩ; Inductance: 0.22μH; Rated Current: 38A
footprint WE-HCM_1078
simulation model 1078_7443081022_0.22u
pins: 1, 2

## 7443081030
designator L?, comment 0.3μH, 38A  (value not drawn)
WE-HCM SMT High Current Flat Wire Inductor, size 1078, 0.3μH, 38A, 0.29mΩ; Manufacturer Part Number: 7443081030; Manufacturer: Wurth Elektronik; Case/Size Code: 1078; Material: MnZn; Rated Inductance: 0.14μH; Saturation Current @ 10%: 28.9A; Saturation Current @ 30%: 34.6A; Self Resonant Frequency: 33MHz; Category: Power Inductors; Match Code: WE-HCM; ComponentLink1Description: Website Link; ComponentLink1URL: https://www.we-online.com/redexpert/article/7443081030?ad; ComponentLink2Description: Datasheet Link; ComponentLink2URL: https://www.we-online.com/redexpert/spec/7443081030?ad; Mount: Surface Mount; Min Operating Temperature: -40°C; Max Operating Temperature: 125°C; Packaging: Tape and Reel; Length: 9.4mm; Width: 6.2mm; Height: 7.8mm; DC Resistance: 0.29mΩ; Inductance: 0.3μH; Rated Current: 38A
footprint WE-HCM_1078
simulation model 1078_7443081030_0.3u
pins: 1, 2

## 7443081040
designator L?, comment 0.4μH, 38A  (value not drawn)
WE-HCM SMT High Current Flat Wire Inductor, size 1078, 0.4μH, 38A, 0.29mΩ; Manufacturer Part Number: 7443081040; Manufacturer: Wurth Elektronik; Case/Size Code: 1078; Material: MnZn; Rated Inductance: 0.05μH; Saturation Current @ 10%: 20.1A; Saturation Current @ 30%: 24.1A; Self Resonant Frequency: 27MHz; Category: Power Inductors; Match Code: WE-HCM; ComponentLink1Description: Website Link; ComponentLink1URL: https://www.we-online.com/redexpert/article/7443081040?ad; ComponentLink2Description: Datasheet Link; ComponentLink2URL: https://www.we-online.com/redexpert/spec/7443081040?ad; Mount: Surface Mount; Min Operating Temperature: -40°C; Max Operating Temperature: 125°C; Packaging: Tape and Reel; Length: 9.4mm; Width: 6.2mm; Height: 7.8mm; DC Resistance: 0.29mΩ; Inductance: 0.4μH; Rated Current: 38A
footprint WE-HCM_1078
simulation model 1078_7443081040_0.4u
pins: 1, 2

## 7443082010
designator L?, comment 0.1μH, 60A  (value not drawn)
WE-HCM SMT High Current Flat Wire Inductor, size 1088, 0.1μH, 60A, 0.18mΩ; Manufacturer Part Number: 7443082010; Manufacturer: Wurth Elektronik; Case/Size Code: 1088; Material: MnZn; Rated Inductance: 0.099μH; Saturation Current @ 10%: 107.3A; Saturation Current @ 30%: 114.1A; Self Resonant Frequency: 94MHz; Category: Power Inductors; Match Code: WE-HCM; ComponentLink1Description: Website Link; ComponentLink1URL: https://www.we-online.com/redexpert/article/7443082010?ad; ComponentLink2Description: Datasheet Link; ComponentLink2URL: https://www.we-online.com/redexpert/spec/7443082010?ad; Mount: Surface Mount; Min Operating Temperature: -40°C; Max Operating Temperature: 125°C; Packaging: Tape and Reel; Length: 10.2mm; Width: 8mm; Height: 8.1mm; DC Resistance: 0.18mΩ; Inductance: 0.1μH; Rated Current: 60A
footprint WE-HCM_1088
simulation model 1088_7443082010_0.1u
pins: 1, 2

## 7443082010B
designator L?, comment 0.1μH, 70A  (value not drawn)
WE-HCM SMT High Current Flat Wire Inductor, size 1088B, 0.1μH, 70A, 0.114mΩ; Manufacturer Part Number: 7443082010B; Manufacturer: Wurth Elektronik; Material: MnZn; Rated Inductance: 0.104μH; Saturation Current @ 10%: 103A; Saturation Current @ 30%: 117A; Self Resonant Frequency: 90MHz; Category: Power Inductors; Match Code: WE-HCM; ComponentLink1Description: Website Link; ComponentLink1URL: https://www.we-online.com/redexpert/article/7443082010B?ad; ComponentLink2Description: Datasheet Link; ComponentLink2URL: https://www.we-online.com/redexpert/spec/7443082010B?ad; Mount: Surface Mount; Min Operating Temperature: -40°C; Max Operating Temperature: 125°C; Packaging: Tape and Reel; Case/Size Code: 1088B; Length: 10.8mm; Width: 8.2mm; Height: 8.5mm; DC Resistance: 0.114mΩ; Inductance: 0.1μH; Rated Current: 70A
footprint WE-HCM_1088B
simulation model 1088_7443082010B_0.1u
pins: 1, 2

## 7443082012
designator L?, comment 0.12μH, 60A  (value not drawn)
WE-HCM SMT High Current Flat Wire Inductor, size 1088, 0.12μH, 60A, 0.18mΩ; Manufacturer Part Number: 7443082012; Manufacturer: Wurth Elektronik; Case/Size Code: 1088; Material: MnZn; Rated Inductance: 0.118μH; Saturation Current @ 10%: 93.1A; Saturation Current @ 30%: 100A; Self Resonant Frequency: 70MHz; Category: Power Inductors; Match Code: WE-HCM; ComponentLink1Description: Website Link; ComponentLink1URL: https://www.we-online.com/redexpert/article/7443082012?ad; ComponentLink2Description: Datasheet Link; ComponentLink2URL: https://www.we-online.com/redexpert/spec/7443082012?ad; Mount: Surface Mount; Min Operating Temperature: -40°C; Max Operating Temperature: 125°C; Packaging: Tape and Reel; Length: 10.2mm; Width: 8mm; Height: 8.1mm; DC Resistance: 0.18mΩ; Inductance: 0.12μH; Rated Current: 60A
footprint WE-HCM_1088
simulation model 1088_7443082012_0.12u
pins: 1, 2

## 7443082012B
designator L?, comment 0.12μH, 70A  (value not drawn)
WE-HCM SMT High Current Flat Wire Inductor, size 1088B, 0.12μH, 70A, 0.114mΩ; Manufacturer Part Number: 7443082012B; Manufacturer: Wurth Elektronik; Material: MnZn; Rated Inductance: 0.117μH; Saturation Current @ 10%: 93.6A; Saturation Current @ 30%: 100.9A; Self Resonant Frequency: 64MHz; Category: Power Inductors; Match Code: WE-HCM; ComponentLink1Description: Website Link; ComponentLink1URL: https://www.we-online.com/redexpert/article/7443082012B?ad; ComponentLink2Description: Datasheet Link; ComponentLink2URL: https://www.we-online.com/redexpert/spec/7443082012B?ad; Mount: Surface Mount; Min Operating Temperature: -40°C; Max Operating Temperature: 125°C; Packaging: Tape and Reel; Case/Size Code: 1088B; Length: 10.8mm; Width: 8.2mm; Height: 8.5mm; DC Resistance: 0.114mΩ; Inductance: 0.12μH; Rated Current: 70A
footprint WE-HCM_1088B
simulation model 1088_7443082012B_0.12u
pins: 1, 2

## 7443082015
designator L?, comment 0.15μH, 60A  (value not drawn)
WE-HCM SMT High Current Flat Wire Inductor, size 1088, 0.15μH, 60A, 0.18mΩ; Manufacturer Part Number: 7443082015; Manufacturer: Wurth Elektronik; Case/Size Code: 1088; Material: MnZn; Rated Inductance: 0.147μH; Saturation Current @ 10%: 80.5A; Saturation Current @ 30%: 87.1A; Self Resonant Frequency: 63MHz; Category: Power Inductors; Match Code: WE-HCM; ComponentLink1Description: Website Link; ComponentLink1URL: https://www.we-online.com/redexpert/article/7443082015?ad; ComponentLink2Description: Datasheet Link; ComponentLink2URL: https://www.we-online.com/redexpert/spec/7443082015?ad; Mount: Surface Mount; Min Operating Temperature: -40°C; Max Operating Temperature: 125°C; Packaging: Tape and Reel; Length: 10.2mm; Width: 8mm; Height: 8.1mm; DC Resistance: 0.18mΩ; Inductance: 0.15μH; Rated Current: 60A
footprint WE-HCM_1088
simulation model 1088_7443082015_0.15u
pins: 1, 2

## 7443082015A
designator L?, comment 0.15μH, 65A  (value not drawn)
WE-HCM SMT High Current Flat Wire Inductor, size 1088A, 0.15μH, 65A, 0.15mΩ; Manufacturer Part Number: 7443082015A; Manufacturer: Wurth Elektronik; Material: MnZn; Rated Inductance: 0.136μH; Saturation Current @ 10%: 68.5A; Saturation Current @ 30%: 76.9A; Self Resonant Frequency: 56MHz; Category: Power Inductors; Match Code: WE-HCM; ComponentLink1Description: Website Link; ComponentLink1URL: https://www.we-online.com/redexpert/article/7443082015A?ad; ComponentLink2Description: Datasheet Link; ComponentLink2URL: https://www.we-online.com/redexpert/spec/7443082015A?ad; Mount: Surface Mount; Min Operating Temperature: -40°C; Max Operating Temperature: 125°C; Packaging: Tape and Reel; Case/Size Code: 1088A; Length: 10.2mm; Width: 8.1mm; Height: 8.1mm; DC Resistance: 0.15mΩ; Inductance: 0.15μH; Rated Current: 65A
footprint WE-HCM_1088A
simulation model 1088_7443082015A_0.15u
pins: 1, 2

## 7443082015B
designator L?, comment 0.15μH, 70A  (value not drawn)
WE-HCM SMT High Current Flat Wire Inductor, size 1088B, 0.15μH, 70A, 0.114mΩ; Manufacturer Part Number: 7443082015B; Manufacturer: Wurth Elektronik; Material: MnZn; Rated Inductance: 0.143μH; Saturation Current @ 10%: 80.7A; Saturation Current @ 30%: 88.4A; Self Resonant Frequency: 52MHz; Category: Power Inductors; Match Code: WE-HCM; ComponentLink1Description: Website Link; ComponentLink1URL: https://www.we-online.com/redexpert/article/7443082015B?ad; ComponentLink2Description: Datasheet Link; ComponentLink2URL: https://www.we-online.com/redexpert/spec/7443082015B?ad; Mount: Surface Mount; Min Operating Temperature: -40°C; Max Operating Temperature: 125°C; Packaging: Tape and Reel; Case/Size Code: 1088B; Length: 10.8mm; Width: 8.2mm; Height: 8.5mm; DC Resistance: 0.114mΩ; Inductance: 0.15μH; Rated Current: 70A
footprint WE-HCM_1088B
simulation model 1088_7443082015B_0.15u
pins: 1, 2

## 7443082017
designator L?, comment 0.17μH, 60A  (value not drawn)
WE-HCM SMT High Current Flat Wire Inductor, size 1088, 0.17μH, 60A, 0.18mΩ; Manufacturer Part Number: 7443082017; Manufacturer: Wurth Elektronik; Case/Size Code: 1088; Material: MnZn; Rated Inductance: 0.15μH; Saturation Current @ 10%: 62.9A; Saturation Current @ 30%: 69.3A; Self Resonant Frequency: 56MHz; Category: Power Inductors; Match Code: WE-HCM; ComponentLink1Description: Website Link; ComponentLink1URL: https://www.we-online.com/redexpert/article/7443082017?ad; ComponentLink2Description: Datasheet Link; ComponentLink2URL: https://www.we-online.com/redexpert/spec/7443082017?ad; Mount: Surface Mount; Min Operating Temperature: -40°C; Max Operating Temperature: 125°C; Packaging: Tape and Reel; Length: 10.2mm; Width: 8mm; Height: 8.1mm; DC Resistance: 0.18mΩ; Inductance: 0.17μH; Rated Current: 60A
footprint WE-HCM_1088
simulation model 1088_7443082017_0.17u
pins: 1, 2

## 7443082018
designator L?, comment 0.18μH, 60A  (value not drawn)
WE-HCM SMT High Current Flat Wire Inductor, size 1088, 0.18μH, 60A, 0.18mΩ; Manufacturer Part Number: 7443082018; Manufacturer: Wurth Elektronik; Case/Size Code: 1088; Material: MnZn; Rated Inductance: 0.165μH; Saturation Current @ 10%: 59.3A; Saturation Current @ 30%: 66.4A; Self Resonant Frequency: 53MHz; Category: Power Inductors; Match Code: WE-HCM; ComponentLink1Description: Website Link; ComponentLink1URL: https://www.we-online.com/redexpert/article/7443082018?ad; ComponentLink2Description: Datasheet Link; ComponentLink2URL: https://www.we-online.com/redexpert/spec/7443082018?ad; Mount: Surface Mount; Min Operating Temperature: -40°C; Max Operating Temperature: 125°C; Packaging: Tape and Reel; Length: 10.2mm; Width: 8mm; Height: 8.1mm; DC Resistance: 0.18mΩ; Inductance: 0.18μH; Rated Current: 60A
footprint WE-HCM_1088
simulation model 1088_7443082018_0.18u
pins: 1, 2